# Altium schematic symbol library ul_S8BPHKSLFSN.SchLib: 1 symbol
Pins are listed as number, name and electrical type; pins without a type are passive.

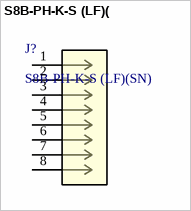
[diagram p0: symbol S8B-PH-K-S (LF)(]

## S8B-PH-K-S (LF)(
designator J?, comment S8B-PH-K-S (LF)(SN)
No Description Available; Vendor: JST; Built_By: EMA_Cory; SourceLibrary: JST_2019-12-02; Manufacturer_Part_Number: S8B-PH-K-S (LF)(SN); Copyright: Copyright (C) 2018 Accelerated Designs. All rights reserved; RefDes: RefDes; Type: DEV
footprint CONN_S8B-PH-K-S
pins: 1, 2, 3, 4, 5, 6, 7, 8